# Altium schematic symbol library Amplifiers (digital).SchLib: 1 symbol
Pins are listed as number, name and electrical type; pins without a type are passive.

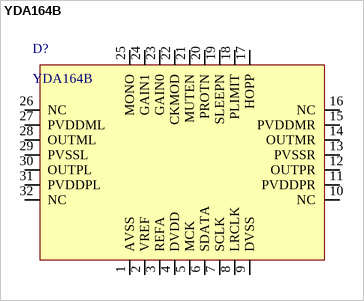
[diagram p0: symbol YDA164B]

## YDA164B
designator D?
YDA164 sound amp, 10W; Supply voltage: 8V to 18V; Fs: 32kHz, 44.1kHz, 48kHz; Efficiency: 92%; Tj (max): +150 ℃
footprint QFN32
pins: 1 AVSS, 2 VREF, 3 REFA, 4 DVDD, 5 MCK, 6 SDATA, 7 SCLK, 8 LRCLK, 9 DVSS, 10 NC, 11 PVDDPR, 12 OUTPR, 13 PVSSR, 14 OUTMR, 15 PVDDMR, 16 NC, 17 HOPP, 18 PLIMIT, 19 SLEEPN, 20 PROTN, 21 MUTEN, 22 CKMOD, 23 GAIN0, 24 GAIN1, 25 MONO, 26 NC, 27 PVDDML, 28 OUTML, 29 PVSSL, 30 OUTPL, 31 PVDDPL, 32 NC